# Altium footprint library MUSB-05-S-B-SM-A.PcbLib: 1 footprints
Each footprint in its own frame and in the unit in brackets; x right, y up, seen from the top. Pads: shape width x height; smd on the part's side, far side on the other; paste and mask are expansions set on the pad; w line width, h text height; cw(c..) or ccw(c..) is an arc to the next point about the centre after c.
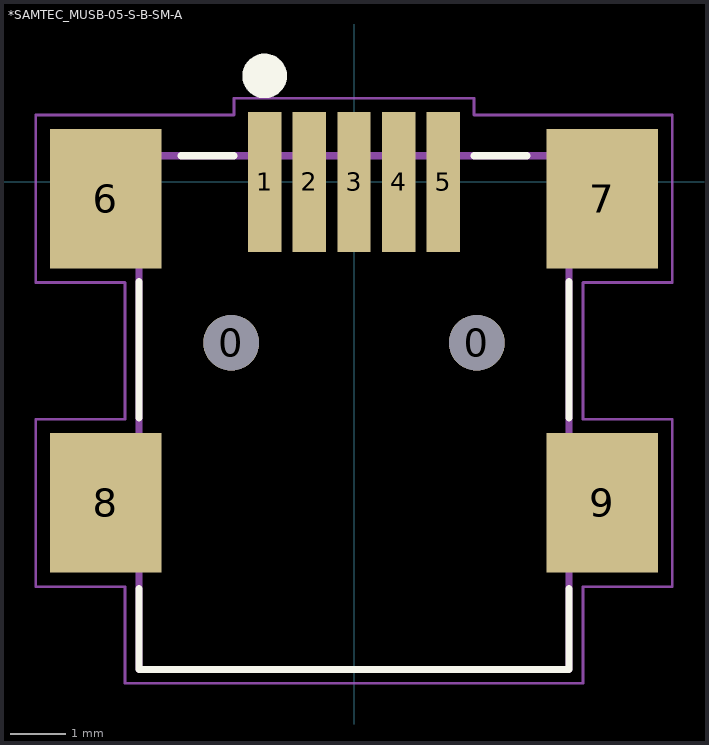
[diagram p0: the footprint, top view; thin cyan lines are the x and y axes]

## *SAMTEC_MUSB-05-S-B-SM-A [mm]
pads (11):
  round 1 hole 1: 0(-2.2,-2.88) 0(2.2,-2.88)
  rect 0.6x2.5 smd: 1(-1.6,0) 2(-0.8,0) 3(0,0) 4(0.8,0) 5(1.6,0)
  rect 2x2.5 smd: 6(-4.45,-0.3) 7(4.45,-0.3) 8(-4.45,-5.75) 9(4.45,-5.75)
Top Overlay:
  circle w0.4: c-1.6,1.9 r0.2
  lines w0.127: -3.85,-7.28 -3.85,-8.73 3.85,-8.73 3.85,-7.28 ; -3.85,-4.23 -3.85,-1.78 ; -3.1,0.47 -2.15,0.47 ; 2.15,0.47 3.1,0.47 ; 3.85,-4.23 3.85,-1.78
Mechanical 13:
  lines w0.127: -3.85,-8.73 -3.85,0.47 ; -3.85,-8.73 3.85,-8.73 ; -3.85,-8.73 -3.85,0.47 ; -3.85,-8.73 3.85,-8.73 ; -3.85,0.47 3.85,0.47 ; -3.85,0.47 3.85,0.47 ; 3.85,-8.73 3.85,0.47 ; 3.85,-8.73 3.85,0.47
Mechanical 15:
  lines w0.05: -5.7,-7.25 -4.1,-7.25 -4.1,-8.98 4.1,-8.98 4.1,-7.25 5.7,-7.25 5.7,-4.25 4.1,-4.25 4.1,-1.8 5.7,-1.8 5.7,1.2 2.15,1.2 2.15,1.5 -2.15,1.5 -2.15,1.2 -5.7,1.2 -5.7,-1.8 -4.1,-1.8 -4.1,-4.25 -5.7,-4.25 -5.7,-7.25